# Altium schematic symbol library PI4IOE5V6524.SchLib: 3 symbols
Pins are listed as number, name and electrical type; pins without a type are passive.

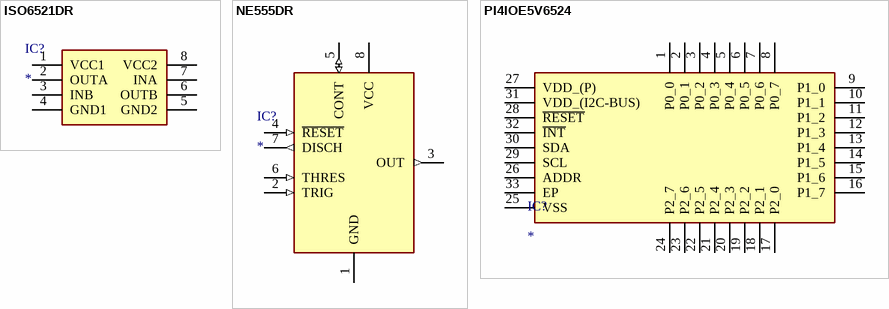
[diagram p0: symbols ISO6521DR to PI4IOE5V6524]

## ISO6521DR
designator IC?
Integrated Circuit; Manufacturer_Name: Texas Instruments; Manufacturer_Part_Number: ISO6521DR; Datasheet Link: https://www.ti.com/lit/ds/symlink/iso6521.pdf?ts=1739774597468&ref_url=https%253A%252F%252Fwww.ti.com%252Fproduct%252FISO6521; Height: 1.75mm
footprint SOIC127P600X175-8N
pins: 1 VCC1, 2 OUTA, 3 INB, 4 GND1, 5 GND2, 6 OUTB, 7 INA, 8 VCC2

## NE555DR
designator IC?
Integrated Circuit; Manufacturer_Name: Texas Instruments; Manufacturer_Part_Number: NE555DR; Datasheet Link: http://www.ti.com/lit/ds/symlink/ne555.pdf; Height: 1.75mm; Mouser Part Number: 595-NE555DR; Mouser Price/Stock: https://www.mouser.com/Search/Refine.aspx?Keyword=595-NE555DR; RS Part Number: 1218414; RS Price/Stock: http://uk.rs-online.com/web/p/products/1218414
footprint SOIC127P600X175-8N
pins: 1 GND (power), 2 TRIG (in), 3 OUT (out), 4 ~{RESET} (in), 5 CONT (io), 6 THRES (in), 7 DISCH (out), 8 VCC (power)

## PI4IOE5V6524
designator IC?
Integrated Circuit; Manufacturer_Name: Diodes Incorporated; Manufacturer_Part_Number: PI4IOE5V6524; Datasheet Link: https://www.diodes.com/assets/Datasheets/PI4IOE5V6524.pdf; Height: 0.8mm
footprint QFN50P500X500X80-33N-D
pins: 1 P0_0, 2 P0_1, 3 P0_2, 4 P0_3, 5 P0_4, 6 P0_5, 7 P0_6, 8 P0_7, 9 P1_0, 10 P1_1, 11 P1_2, 12 P1_3, 13 P1_4, 14 P1_5, 15 P1_6, 16 P1_7, 17 P2_0, 18 P2_1, 19 P2_2, 20 P2_3, 21 P2_4, 22 P2_5, 23 P2_6, 24 P2_7, 25 VSS, 26 ADDR, 27 VDD_(P), 28 ~{RESET}, 29 SCL, 30 SDA, 31 VDD_(I2C-BUS), 32 ~{INT}, 33 EP